# Altium footprint library Connector Footprints.PcbLib: 65 footprints (part 5 of 5)
Each footprint in its own frame and in the unit in brackets; x right, y up, seen from the top. Pads: shape width x height; smd on the part's side, far side on the other; paste and mask are expansions set on the pad; w line width, h text height; cw(c..) or ccw(c..) is an arc to the next point about the centre after c.
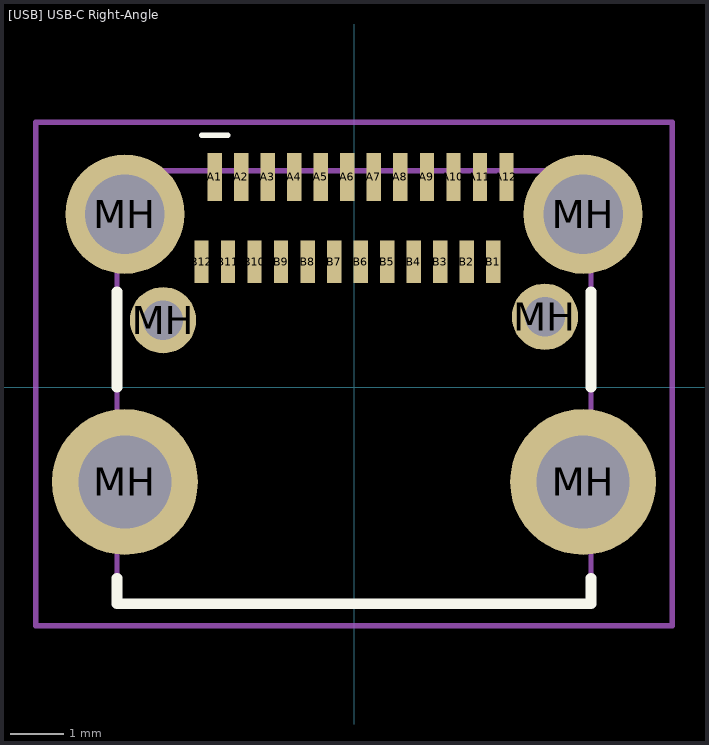
[diagram p4: the footprint, top view; thin cyan lines are the x and y axes]

## [USB] USB-C Right-Angle [mm]
pads (30):
  rect 0.27x0.9 smd: A1(-2.625,3.965) A2(-2.125,3.965) A3(-1.625,3.965) A4(-1.125,3.965) A5(-0.625,3.965) A6(-0.125,3.965) A7(0.375,3.965) A8(0.875,3.965) A9(1.375,3.965) A10(1.875,3.965) A11(2.375,3.965) A12(2.875,3.965)
  rect 0.27x0.8 smd: B1(2.625,2.365) B2(2.125,2.365) B3(1.625,2.365) B4(1.125,2.365) B5(0.625,2.365) B6(0.125,2.365) B7(-0.375,2.365) B8(-0.875,2.365) B9(-1.375,2.365) B10(-1.875,2.365) B11(-2.375,2.365) B12(-2.875,2.365)
  round 2.75 hole 1.75: MH(-4.32,-1.785) MH(4.32,-1.785)
  round 2.25 hole 1.5: MH(-4.32,3.265) MH(4.32,3.265)
  round 1.25 hole 0.75: MH(-3.6,1.265) MH(3.6,1.33)
Top Overlay:
  lines w0.1: -2.875,4.75 -2.375,4.75
  lines w0.2: -4.47,-3.6 -4.47,-4.085 4.47,-4.085 4.47,-3.6 ; -4.47,0 -4.47,1.8 ; 4.47,0 4.47,1.8
Physical Drawing:
  lines w0.1: -4.47,-4.085 4.47,-4.085 4.47,4.085 -4.47,4.085 -4.47,-4.085
Part Outline:
  lines w0.1: -6,-4.5 6,-4.5 6,5 -6,5 -6,-4.5
3D body "DX07S024JA1R1300.stp": height 2.92, standoff -0.82, extent -4.51,-4.16 4.43,4.01